# EAGLE library part LTA-1000G (library eagle-library-engr-240-f22)
LED Uni-Color Green 565nm 20-Pin PDIP Source: Datasheet <https://optoelectronics.liteon.com/upload/download/DS-30-92-0809/A1000G.pdf>
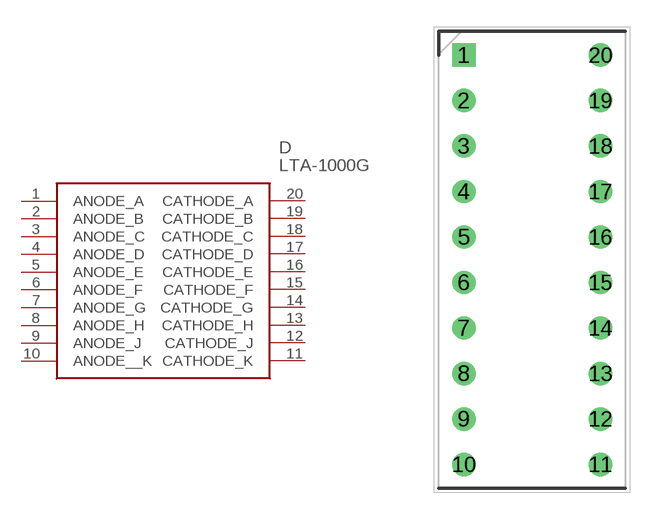
[diagram p1: symbol with the pads of DIPS762W50P254L2527H825Q20N; footprint DIPS762W50P254L2527H825Q20N]

Designator prefix D

## LTA-1000G (DESCRIPTION: LED Uni-Color Green 565nm 20-Pin PDIP; HEIGHT: 8.25mm; MANUFACTURER_NAME: Lite-On; MANUFACTURER_PART_NUMBER: LTA-1000G; MOUSER_PART_NUMBER: 859-LTA-1000G; MOUSER_PRICE-STOCK: https://www.mouser.co.uk/ProductDetail/Lite-On/LTA-1000G?qs=%2FTKcI5XXRKq0QINzVmwJHg%3D%3D)  [DIPS762W50P254L2527H825Q20N]
1  ANODE_A
2  ANODE_B
3  ANODE_C
4  ANODE_D
5  ANODE_E
6  ANODE_F
7  ANODE_G
8  ANODE_H
9  ANODE_J
10  ANODE__K
11  CATHODE_K
12  CATHODE_J
13  CATHODE_H
14  CATHODE_G
15  CATHODE_F
16  CATHODE_E
17  CATHODE_D
18  CATHODE_C
19  CATHODE_B
20  CATHODE_A

## Footprint DIPS762W50P254L2527H825Q20N (pad centres in mm)
LTA-1000Y
drill 0.8 pad 1.2 square: 1 0,0
drill 0.8 pad 1.2: 2 0,-2.54; 3 0,-5.08; 4 0,-7.62; 5 0,-10.16; 6 0,-12.7; 7 0,-15.24; 8 0,-17.78; 9 0,-20.32; 10 0,-22.86; 11 7.62,-22.86; 12 7.62,-20.32; 13 7.62,-17.78; 14 7.62,-15.24; 15 7.62,-12.7; 16 7.62,-10.16; 17 7.62,-7.62; 18 7.62,-5.08; 19 7.62,-2.54; 20 7.62,0